# EAGLE library part DTRIODE (library FHD-RETRO)
Generic B9A Dual-triode footprint for Dual-Heater tubes. Examples: 12AX7, 12AU7, etc
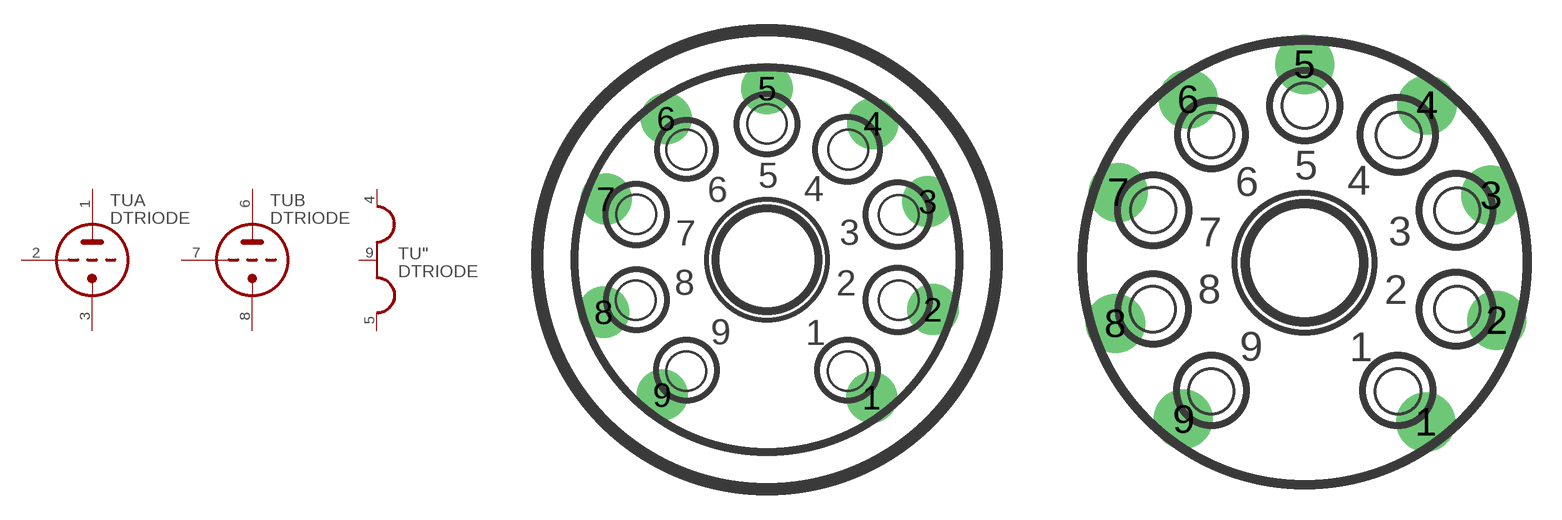
[diagram p1: symbol with the pads of NOVAL; footprints NOVAL, NOVAL-SOCKET]

Designator prefix TU; gates A=TRIODE B=TRIODE "=HEATER_2

## DTRIODEFULL  [NOVAL]
1  A:TA  pas
2  A:TG  pas
3  A:TK  pas
4  ":H1  pas
5  ":H3  pas
6  B:TA  pas
7  B:TG  pas
8  B:TK  pas
9  ":H2  pas

## DTRIODESOCKET  [NOVAL-SOCKET]
Pads as for NOVAL

## Footprint NOVAL (pad centres in mm)
drill 1.422 pad 2.54: 1 5.207,-6.858; 2 8.254,-2.484; 3 8.004,2.893; 4 5.258,6.77; 5 0,8.524; 6 -5.004,7.024; 7 -8.004,3.02; 8 -8.127,-2.611; 9 -5.207,-6.731

## Footprint NOVAL-SOCKET (pad centres in mm)
drill 1.422 pad 2.54: 1 5.207,-6.858; 2 8.254,-2.484; 3 8.004,2.893; 4 5.258,6.77; 5 0,8.524; 6 -5.004,7.024; 7 -8.004,3.02; 8 -8.127,-2.611; 9 -5.207,-6.731